# EAGLE library part DRV8332 (library DRV8332)
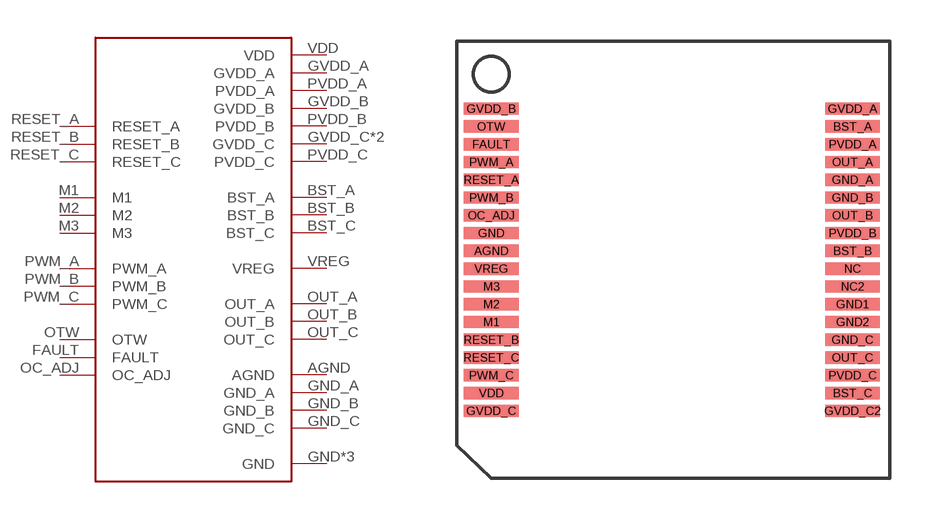
[diagram p0: symbol with the pads of DRV8332; footprint DRV8332]

Designator prefix -

## DRV8332  [DRV8332]
AGND  AGND
BST_A  BST_A
BST_B  BST_B
BST_C  BST_C
FAULT  FAULT
GND  GND
GND1  GND
GND2  GND
GND_A  GND_A
GND_B  GND_B
GND_C  GND_C
GVDD_A  GVDD_A
GVDD_B  GVDD_B
GVDD_C  GVDD_C
GVDD_C2  GVDD_C
M1  M1
M2  M2
M3  M3
OC_ADJ  OC_ADJ
OTW  OTW
OUT_A  OUT_A
OUT_B  OUT_B
OUT_C  OUT_C
PVDD_A  PVDD_A
PVDD_B  PVDD_B
PVDD_C  PVDD_C
PWM_A  PWM_A
PWM_B  PWM_B
PWM_C  PWM_C
RESET_A  RESET_A
RESET_B  RESET_B
RESET_C  RESET_C
VDD  VDD
VREG  VREG

## Footprint DRV8332 (pad centres in mm)
smd 2 x 0.45: AGND 0,5.85; BST_A 13.2,10.4; BST_B 13.2,5.85; BST_C 13.2,0.65; FAULT 0,9.75; GND 0,6.5; GND1 13.2,3.9; GND2 13.2,3.25; GND_A 13.2,8.45; GND_B 13.2,7.8; GND_C 13.2,2.6; GVDD_A 13.2,11.05; GVDD_B 0,11.05; GVDD_C 0,0; GVDD_C2 13.2,0; M1 0,3.25; M2 0,3.9; M3 0,4.55; NC 13.2,5.2; NC2 13.2,4.55; OC_ADJ 0,7.15; OTW 0,10.4; OUT_A 13.2,9.1; OUT_B 13.2,7.15; OUT_C 13.2,1.95; PVDD_A 13.2,9.75; PVDD_B 13.2,6.5; PVDD_C 13.2,1.3; PWM_A 0,9.1; PWM_B 0,7.8; PWM_C 0,1.3; RESET_A 0,8.45; RESET_B 0,2.6; RESET_C 0,1.95; VDD 0,0.65; VREG 0,5.2